# EAGLE library part INA132 (library IntegratedLib)
Amplificador diferencial de alta precisao (SO-8)
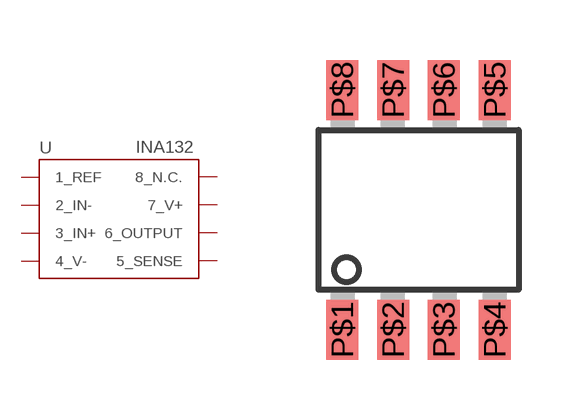
[diagram p8: symbol with the pads of SOIC-8; footprint SOIC-8]

Designator prefix U

## INA132 (FABRICANTE: TEXAS INSTRUMENTS; PARTNUMBER: INA132; TIPO: CIRCUITO INTEGRADO)  [SOIC-8]
P$1  1_REF
P$2  2_IN-
P$3  3_IN+
P$4  4_V-
P$5  5_SENSE
P$6  6_OUTPUT
P$7  7_V+
P$8  8_N.C.

## Footprint SOIC-8 (pad centres in mm)
smd 0.8 x 1.5: P$1 -1.905,-3; P$2 -0.635,-3; P$3 0.635,-3; P$4 1.905,-3; P$5 1.905,3; P$6 0.635,3; P$7 -0.635,3; P$8 -1.905,3